# Altium footprint library Resistors$.PcbLib: 35 footprints (part 3 of 3)
Each footprint in its own frame and in the unit in brackets; x right, y up, seen from the top. Pads: shape width x height; smd on the part's side, far side on the other; paste and mask are expansions set on the pad; w line width, h text height; cw(c..) or ccw(c..) is an arc to the next point about the centre after c.
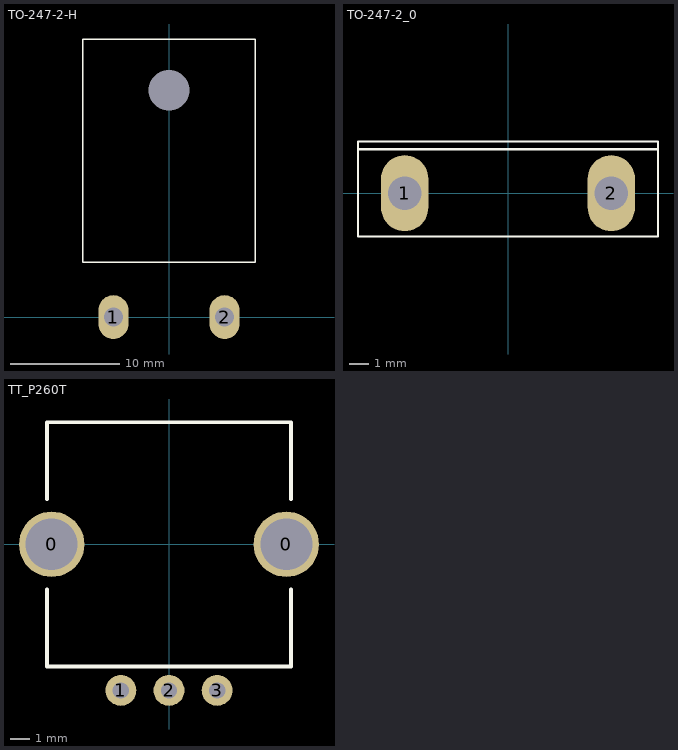
[diagram p2: the footprints below, top view; thin cyan lines are the x and y axes]

## TO-247-2-H [mm] "TO-247 board mounted"
pads (3):
  round 0 hole 3.7: 0(0,20.7)
  oval 2.75x4 hole 1.75: 1(-5.08,0) 2(5.08,0)
Top Overlay:
  lines w0.127: -7.9,5 -7.9,25.4 7.9,25.4 7.9,5 -7.9,5
3D body "TO-247-2-H.SLDPRT": height 5, standoff -7.4, extent -7.75,-0.35 7.75,25.25

## TO-247-2_0 [mm]
pads (2):
  oval 2.5x4 hole 1.75: 1(-5.44,0) 2(5.44,0)
Top Overlay:
  lines w0.127: -7.9,2.32 7.9,2.32 ; -7.9,-2.28 7.9,-2.28 7.9,2.72 -7.9,2.72 -7.9,-2.28

## TT_P260T [mm] "TT Electronics Rotary Potentiometer"
pads (5):
  round 3.4 hole 2.7: 0(-6.1,0) 0(6.1,0)
  round 1.6 hole 0.85: 1(-2.5,-7.6) 2(0,-7.6) 3(2.5,-7.6)
Top Overlay:
  lines w0.2: -6.35,-2.35 -6.35,-6.35 6.35,-6.35 6.35,-2.35 ; -6.35,2.35 -6.35,6.35 6.35,6.35 6.35,2.35
3D body: height 12.7, standoff 0, extent -6.35,-6.35 6.35,6.35